# Altium footprint library IRFS7530.PcbLib: 1 footprints
Each footprint in its own frame and in the unit in brackets; x right, y up, seen from the top. Pads: shape width x height; smd on the part's side, far side on the other; paste and mask are expansions set on the pad; w line width, h text height; cw(c..) or ccw(c..) is an arc to the next point about the centre after c.
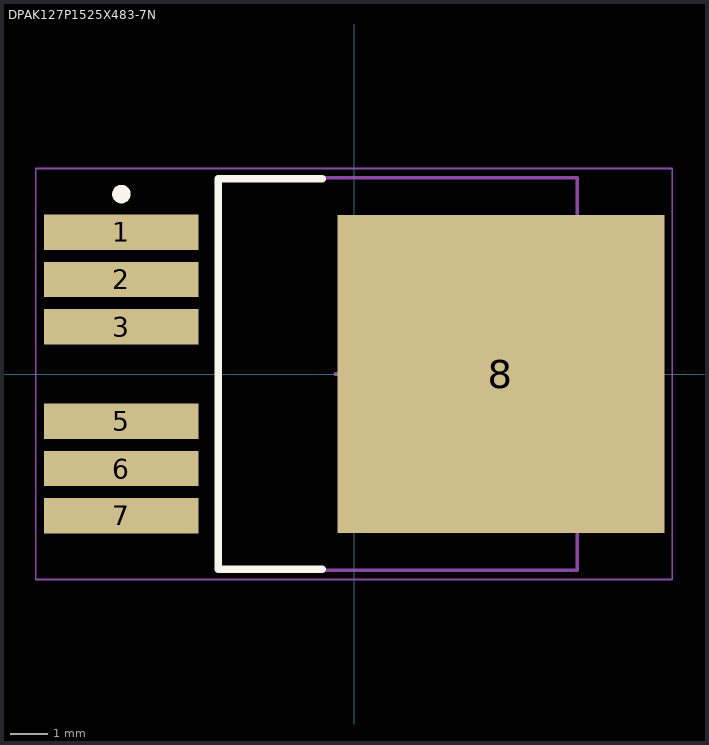
[diagram p0: the footprint, top view; thin cyan lines are the x and y axes]

## DPAK127P1525X483-7N [mm] "D2-PAK, 7-Pads, Body 7,93x8,63mm (max), IPC Medium Density"
height 4.83
pads (7):
  rect 4.15x0.95 smd: 1(-6.25,3.81) 2(-6.25,2.54) 3(-6.25,1.27) 5(-6.25,-1.27) 6(-6.25,-2.54) 7(-6.25,-3.81)
  rect 8.8x8.55 smd: 8(3.95,0)
Top Overlay:
  circle w0.25: c-6.25,4.835 r0.125
  lines w0.2: -0.85,-5.25 -3.65,-5.25 -3.65,5.25 -0.85,5.25
Mechanical 13:
  lines w0.1: -3.65,-5.275 6,-5.275 6,5.275 -3.65,5.275 -3.65,-5.275
Mechanical 15:
  lines w0.05: -8.55,-5.525 8.55,-5.525 8.55,5.525 -8.55,5.525 -8.55,-5.525
  lines w0.1: -0.5,0 0.5,0 ; 0,-0.5 0,0.5
3D body "DPAK127P1525X483-7N.step": height 4.83, standoff 0, extent -7.455,-5.275 7.79,5.275